# Altium footprint library mylib.PcbLib: 122 footprints (part 3 of 8)
Each footprint in its own frame and in the unit in brackets; x right, y up, seen from the top. Pads: shape width x height; smd on the part's side, far side on the other; paste and mask are expansions set on the pad; w line width, h text height; cw(c..) or ccw(c..) is an arc to the next point about the centre after c.
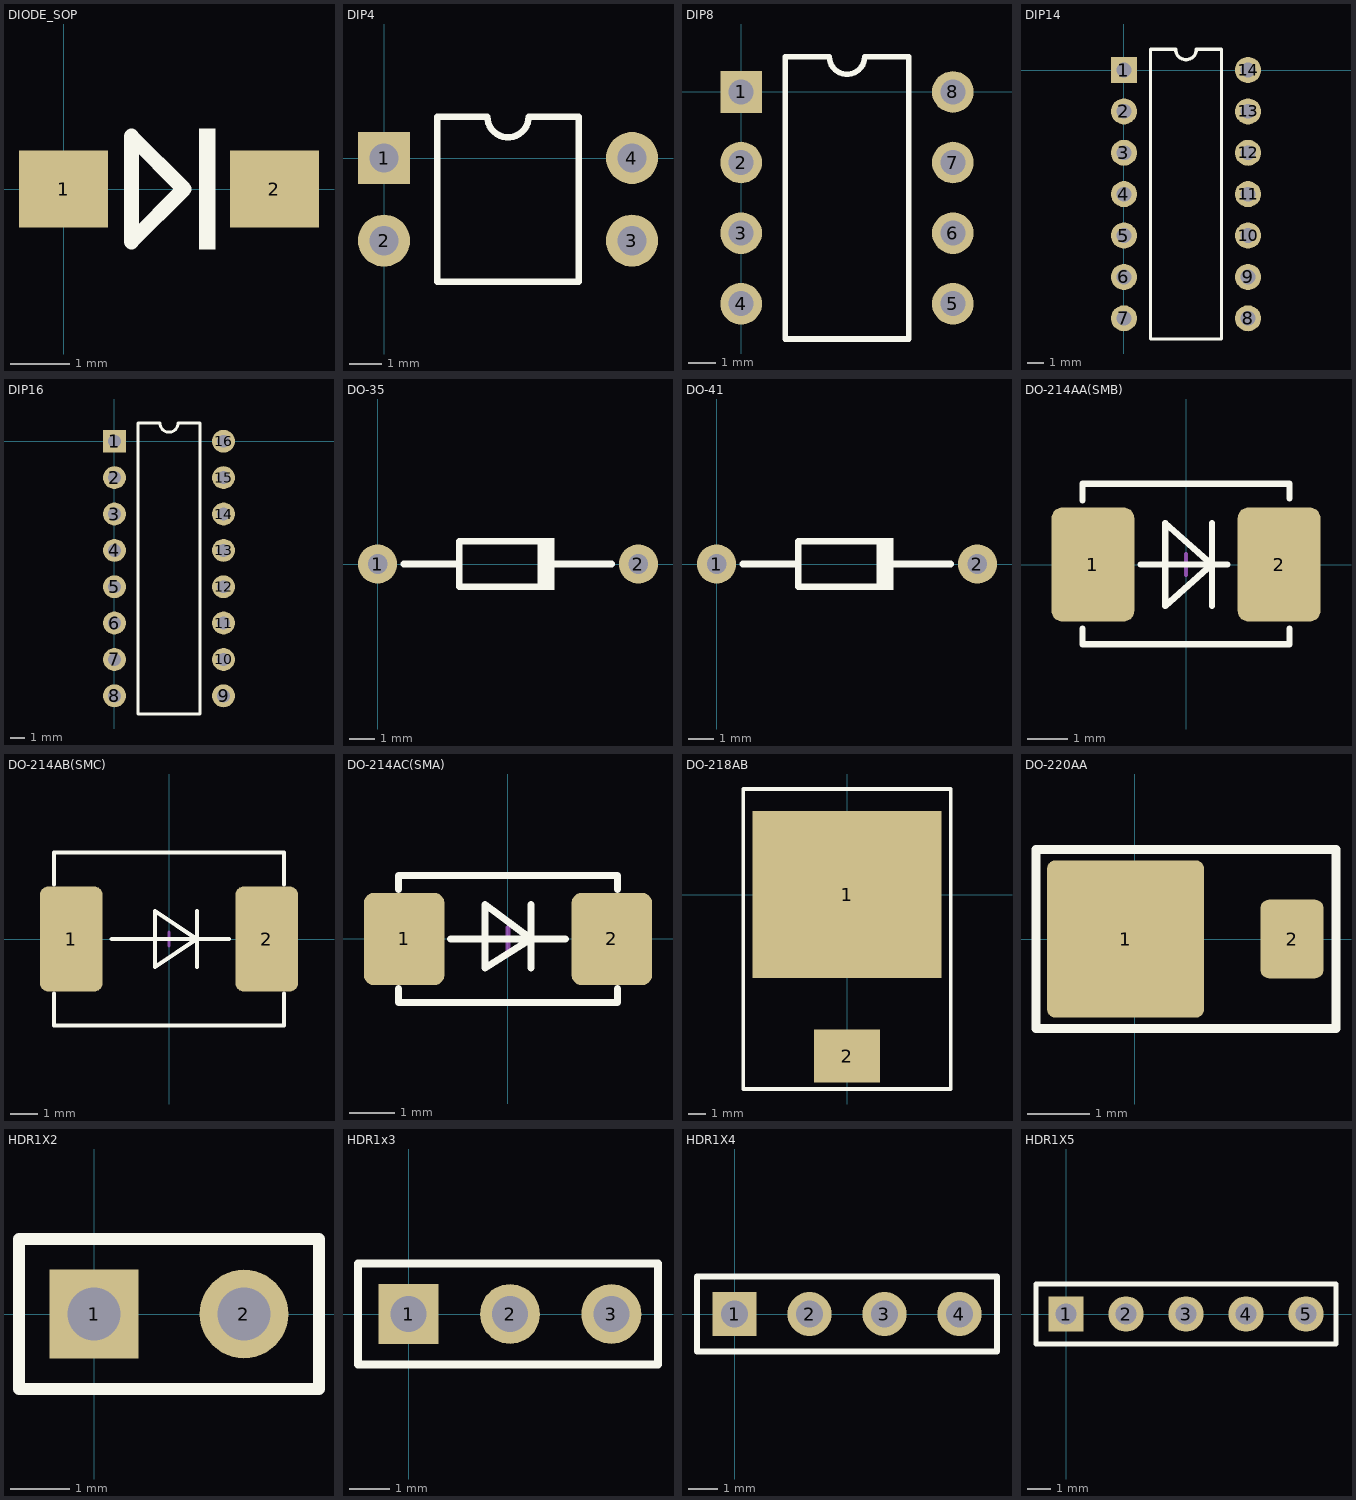
[diagram p2: the footprints below, top view; thin cyan lines are the x and y axes]

## DIODE_SOP [mm]
pads (2):
  rect 1.5x1.3 smd: 1(0,0) 2(3.556,0)
Top Overlay:
  rectangle: 2.286,-1.016 2.559,1.016
  lines w0.254: 1.143,-0.889 2.032,0 1.143,0.889 1.143,-0.889

## DIP4 [mm]
pads (4):
  rect 1.6x1.6 hole 0.9: 1(0,0)
  round 1.6 hole 0.9: 2(0,-2.54) 3(7.62,-2.54) 4(7.62,0)
Top Overlay:
  lines w0.2: 1.635,-3.81 1.635,1.27 3.175,1.27 ccw(c3.81,1.27) 4.445,1.27 5.985,1.27 5.985,-3.81 1.635,-3.81

## DIP8 [mm]
pads (8):
  rect 1.5x1.5 hole 0.9: 1(0,0)
  round 1.5 hole 0.9: 2(0,-2.54) 3(0,-5.08) 4(0,-7.62) 5(7.62,-7.62) 6(7.62,-5.08) 7(7.62,-2.54) 8(7.62,0)
Top Overlay:
  lines w0.2: 1.585,-8.89 1.585,1.27 3.175,1.27 ccw(c3.81,1.27) 4.445,1.27 6.035,1.27 6.035,-8.89 1.585,-8.89

## DIP14 [mm]
pads (14):
  rect 1.6x1.6 hole 0.9: 1(0,0)
  round 1.6 hole 0.9: 2(0,-2.54) 3(0,-5.08) 4(0,-7.62) 5(0,-10.16) 6(0,-12.7) 7(0,-15.24) 8(7.62,-15.24) 9(7.62,-12.7) 10(7.62,-10.16) 11(7.62,-7.62) 12(7.62,-5.08) 13(7.62,-2.54) 14(7.62,0)
Top Overlay:
  lines w0.2: 1.635,-16.51 5.985,-16.51 5.985,1.27 4.445,1.27 cw(c3.81,1.27) 3.175,1.27 1.635,1.27 1.635,-16.51

## DIP16 [mm]
pads (16):
  rect 1.6x1.6 hole 0.9: 1(0,0)
  round 1.6 hole 0.9: 2(0,-2.54) 3(0,-5.08) 4(0,-7.62) 5(0,-10.16) 6(0,-12.7) 7(0,-15.24) 8(0,-17.78) 9(7.62,-17.78) 10(7.62,-15.24) 11(7.62,-12.7) 12(7.62,-10.16) 13(7.62,-7.62) 14(7.62,-5.08) 15(7.62,-2.54) 16(7.62,0)
Top Overlay:
  lines w0.2: 1.635,-19.05 5.985,-19.05 5.985,1.27 4.445,1.27 cw(c3.81,1.27) 3.175,1.27 1.635,1.27 1.635,-19.05

## DO-35 [mil]
pads (2):
  round 60 hole 30: 1(0,0) 2(400,0)
Top Overlay:
  rectangle: 245,-40 271,40
  lines w10: 40,0 125,0 ; 260,-35 125,-35 125,35 262,35 ; 264,0 359,0

## DO-41 [mil]
pads (2):
  round 60 hole 30: 1(0,0) 2(400,0)
Top Overlay:
  rectangle: 245,-40 271,40
  lines w10: 40,0 125,0 ; 260,-35 125,-35 125,35 262,35 ; 264,0 359,0

## DO-214AA(SMB) [mil]
pads (2):
  rrect25% 80x110 smd: 1(-90,0) 2(90,0)
Top Overlay:
  lines w6: -100,-62 -100,-77 100,-77 100,-62 ; -100,62 -100,78 100,78 100,64 ; -44,0 40,0 ; 25,-40 25,40 ; -20,-40 25,0 -20,40 -20,-40
Mechanical 1:
  lines w4: -10,0 10,0 ; 0,-10 0,10
3D body: height 104, standoff 0, extent -110,-77.5 110,78

## DO-214AB(SMC) [mil]
pads (2):
  rrect25% 90x150 smd: 1(-140,0) 2(140,0)
Top Overlay:
  lines w6: -165,-78 -165,-124 165,-124 165,-78 ; -165,78 -165,124 165,124 165,78 ; -82,0 86,0 ; 40,-40 40,40 ; -20,-40 40,0 -20,40 -20,-40
Mechanical 1:
  lines w4: -10,0 10,0 ; 0,-10 0,10
3D body: height 104, standoff 0, extent -160,-124 160,124

## DO-214AC(SMA) [mil]
pads (2):
  rrect25% 70x80 smd: 1(-90,0) 2(90,0)
Top Overlay:
  lines w6: -95,-43 -95,-55 95,-55 95,-43 ; -95,43 -95,55 95,55 95,43 ; -50,0 50,0 ; 20,-25 20,30 ; -20,-25 20,0 -20,30 -20,-25
Mechanical 1:
  lines w4: -10,0 10,0 ; 0,-10 0,10
3D body: height 91, standoff 1, extent -108,-55 108,55

## DO-218AB [mil]
pads (2):
  rect 430x380 smd: 1(0,0)
  rect 150x120 smd: 2(0,-367)
Top Overlay:
  lines w8: -236,-442 236,-442 236,240 -236,240 -236,-442
3D body: height 196.85, standoff 0, extent -196.85,-394 196.85,213.46

## DO-220AA [mil]
pads (2):
  rrect10% 100x100 smd: 1(-6,0)
  rrect25% 40x50 smd: 2(100,0)
Top Overlay:
  lines w6: -63,-57 128,-57 128,57 -63,57 -63,-57
3D body: height 46.28, standoff 1, extent -46.34,-45 108.34,45.85

## HDR1X2 [mm]
pads (2):
  rect 1.5x1.5 hole 0.9: 1(0,0)
  round 1.5 hole 0.9: 2(2.54,0)
Top Overlay:
  lines w0.2: -1.27,-1.27 3.81,-1.27 3.81,1.27 -1.27,1.27 -1.27,-1.27

## HDR1x3 [mm]
pads (3):
  rect 1.5x1.5 hole 0.9: 1(0,0)
  round 1.5 hole 0.9: 2(2.54,0) 3(5.08,0)
Top Overlay:
  lines w0.2: -1.27,-1.27 6.248,-1.27 6.248,1.27 -1.27,1.27 -1.27,-1.27

## HDR1X4 [mm]
pads (4):
  rect 1.5x1.5 hole 0.9: 1(0,0)
  round 1.5 hole 0.9: 2(2.54,0) 3(5.08,0) 4(7.62,0)
Top Overlay:
  lines w0.2: -1.27,-1.27 8.89,-1.27 8.89,1.27 -1.27,1.27 -1.27,-1.27

## HDR1X5 [mm]
pads (5):
  rect 1.5x1.5 hole 0.9: 1(0,0)
  round 1.5 hole 0.9: 2(2.54,0) 3(5.08,0) 4(7.62,0) 5(10.16,0)
Top Overlay:
  lines w0.2: -1.27,-1.27 -1.27,1.27 11.43,1.27 11.43,-1.27 -1.27,-1.27